# Altium schematic symbol library CONN - XT60PW-M.SchLib: 1 symbol
Pins are listed as number, name and electrical type; pins without a type are passive.

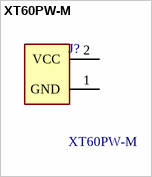
[diagram p0: symbol XT60PW-M]

## XT60PW-M
designator J?
Socket; DC supply; XT60; male; PIN: 2; on PCBs; THT; Colour: yellow; Manufacturer_Name: Changzou Amass Elec; Geometry.Height: 8.4mm; Manufacturer_Part_Number: XT60PW-M; Mouser Part Number: *; Mouser Price/Stock: *; Arrow Part Number: *; Arrow Price/Stock: *; Datasheet Link: https://www.tme.eu/Document/9b8d0c5eb7094295f3d3112c214d3ade/XT60PW%20SPEC.pdf
footprint CONN_XT60PWM
pins: 1 GND, 2 VCC